# EAGLE library part DPL12SV (library rotary)
DPL12S rotary encoder with switch and dual-color LED
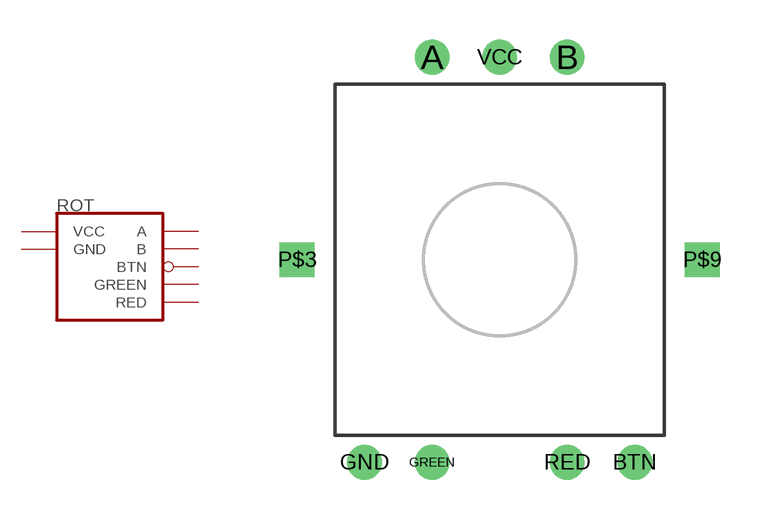
[diagram p0: symbol with the pads of DPL12SV; footprint DPL12SV]

Designator prefix ROT

## DPL12SVCUSTOM  [DPL12SV]
A  A  out
B  B  out
BTN  BTN  out
GND  GND  pwr
GREEN  GREEN  pas
RED  RED  pas
VCC  VCC  pwr

## Footprint DPL12SV (pad centres in mm)
DPL12SV Custom wiring to fit properly on a PCB with 100mil holes
drill 0.8: A -2.54,7.62; B 2.54,7.62; BTN 5.08,-7.62; GND -5.08,-7.62; GREEN -2.54,-7.62; RED 2.54,-7.62; VCC 0,7.62
drill 0.8 square: P$3 -7.62,0; P$9 7.62,0